# Altium footprint library 16-LGA.PcbLib: 1 footprints
Each footprint in its own frame and in the unit in brackets; x right, y up, seen from the top. Pads: shape width x height; smd on the part's side, far side on the other; paste and mask are expansions set on the pad; w line width, h text height; cw(c..) or ccw(c..) is an arc to the next point about the centre after c.
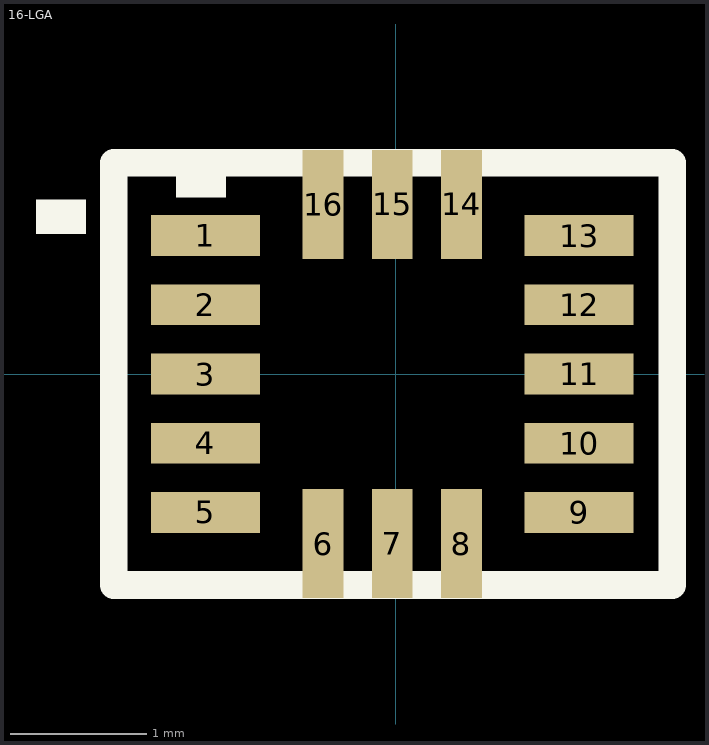
[diagram p0: the footprint, top view; thin cyan lines are the x and y axes]

## 16-LGA [mm]
pads (16):
  rect 0.8x0.3 smd mask+0.07: 1(-1.397,1.016) 2(-1.397,0.508) 3(-1.397,0) 4(-1.397,-0.508) 5(-1.397,-1.016) 9(1.346,-1.016) 10(1.346,-0.508) 11(1.346,0) 12(1.346,0.508) 13(1.346,1.016)
  rect 0.3x0.8 smd mask+0.07: 6(-0.533,-1.245) 7(-0.025,-1.245) 8(0.483,-1.245) 14(0.483,1.245) 15(-0.025,1.245) 16(-0.533,1.245)
Top Overlay:
  region: -2.273,1.283 -2.642,1.283 -2.642,1.029 -2.273,1.029
  region: -1.245,1.549 -1.613,1.549 -1.613,1.295 -1.245,1.295
  lines w0.203: -2.07,-1.549 2.03,-1.549 2.03,1.551 -2.07,1.551 -2.07,-1.549
3D body: height 1.32, standoff 0.01, extent -2.063,-1.601 2.037,1.499